# EAGLE library part AS0A626-U2SN-7F (library AS0A626-U2SN-7F)
Conn DDR3 SO DIMM SKT 204 POS 0.6mm
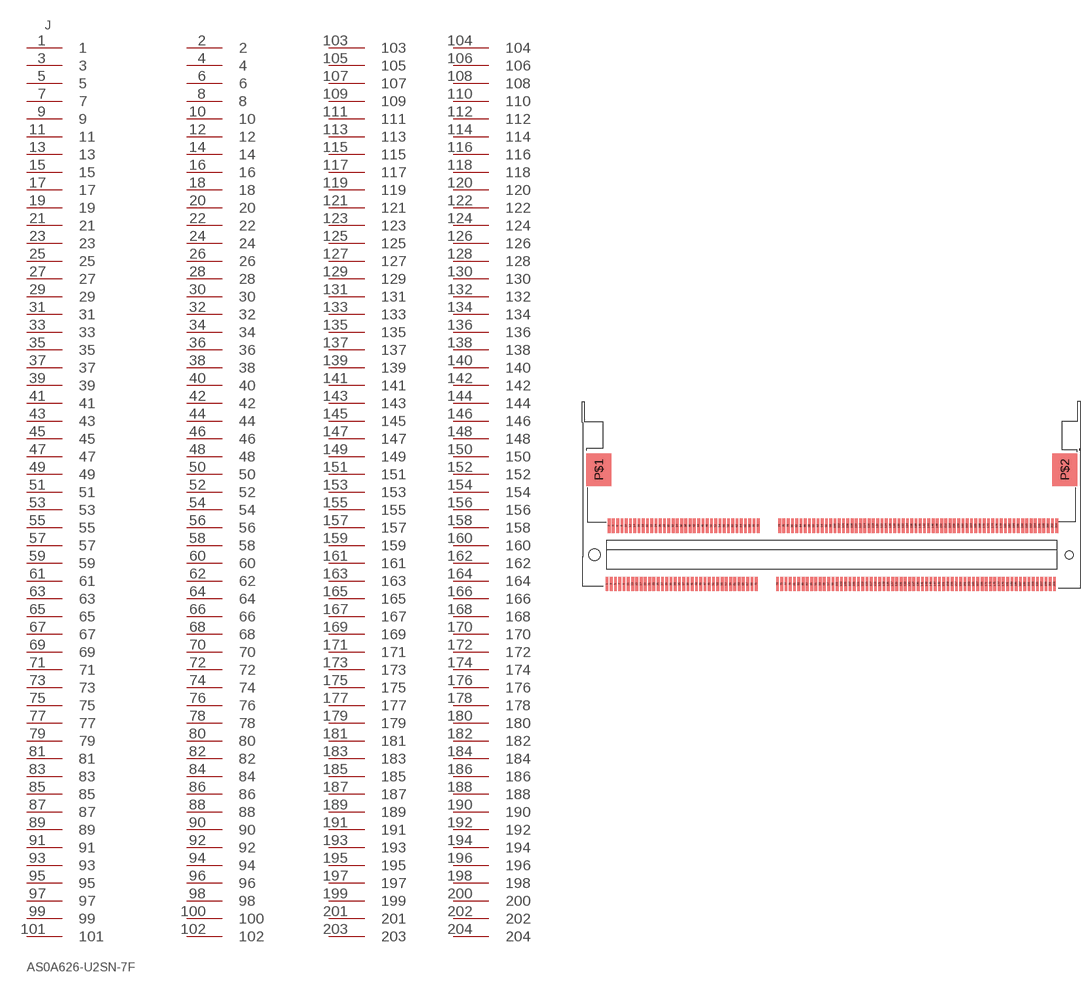
[diagram p0: symbol with the pads of FOXCONN_AS0A626-U2SN-7F; footprint FOXCONN_AS0A626-U2SN-7F]

Designator prefix J

## AS0A626-U2SN-7F (Availability: Unavailable; Description: Connector; MF: Foxconn; MP: AS0A626-U2SN-7F; Package: None; Price: None)  [FOXCONN_AS0A626-U2SN-7F]
1  1  pas
2  2  pas
3  3  pas
4  4  pas
5  5  pas
6  6  pas
7  7  pas
8  8  pas
9  9  pas
10  10  pas
11  11  pas
12  12  pas
13  13  pas
14  14  pas
15  15  pas
16  16  pas
17  17  pas
18  18  pas
19  19  pas
20  20  pas
21  21  pas
22  22  pas
23  23  pas
24  24  pas
25  25  pas
26  26  pas
27  27  pas
28  28  pas
29  29  pas
30  30  pas
31  31  pas
32  32  pas
33  33  pas
34  34  pas
35  35  pas
36  36  pas
37  37  pas
38  38  pas
39  39  pas
40  40  pas
41  41  pas
42  42  pas
43  43  pas
44  44  pas
45  45  pas
46  46  pas
47  47  pas
48  48  pas
49  49  pas
50  50  pas
51  51  pas
52  52  pas
53  53  pas
54  54  pas
55  55  pas
56  56  pas
57  57  pas
58  58  pas
59  59  pas
60  60  pas
61  61  pas
62  62  pas
63  63  pas
64  64  pas
65  65  pas
66  66  pas
67  67  pas
68  68  pas
69  69  pas
70  70  pas
71  71  pas
72  72  pas
73  73  pas
74  74  pas
75  75  pas
76  76  pas
77  77  pas
78  78  pas
79  79  pas
80  80  pas
81  81  pas
82  82  pas
83  83  pas
84  84  pas
85  85  pas
86  86  pas
87  87  pas
88  88  pas
89  89  pas
90  90  pas
91  91  pas
92  92  pas
93  93  pas
94  94  pas
95  95  pas
96  96  pas
97  97  pas
98  98  pas
99  99  pas
100  100  pas
101  101  pas
102  102  pas
103  103  pas
104  104  pas
105  105  pas
106  106  pas
107  107  pas
108  108  pas
109  109  pas
110  110  pas
111  111  pas
112  112  pas
113  113  pas
114  114  pas
115  115  pas
116  116  pas
117  117  pas
118  118  pas
119  119  pas
120  120  pas
121  121  pas
122  122  pas
123  123  pas
124  124  pas
125  125  pas
126  126  pas
127  127  pas
128  128  pas
129  129  pas
130  130  pas
131  131  pas
132  132  pas
133  133  pas
134  134  pas
135  135  pas
136  136  pas
137  137  pas
138  138  pas
139  139  pas
140  140  pas
141  141  pas
142  142  pas
143  143  pas
144  144  pas
145  145  pas
146  146  pas
147  147  pas
148  148  pas
149  149  pas
150  150  pas
151  151  pas
152  152  pas
153  153  pas
154  154  pas
155  155  pas
156  156  pas
157  157  pas
158  158  pas
159  159  pas
160  160  pas
161  161  pas
162  162  pas
163  163  pas
164  164  pas
165  165  pas
166  166  pas
167  167  pas
168  168  pas
169  169  pas
170  170  pas
171  171  pas
172  172  pas
173  173  pas
174  174  pas
175  175  pas
176  176  pas
177  177  pas
178  178  pas
179  179  pas
180  180  pas
181  181  pas
182  182  pas
183  183  pas
184  184  pas
185  185  pas
186  186  pas
187  187  pas
188  188  pas
189  189  pas
190  190  pas
191  191  pas
192  192  pas
193  193  pas
194  194  pas
195  195  pas
196  196  pas
197  197  pas
198  198  pas
199  199  pas
200  200  pas
201  201  pas
202  202  pas
203  203  pas
204  204  pas

## Footprint FOXCONN_AS0A626-U2SN-7F (pad centres in mm)
smd 0.4 x 2: 1 -31.6,-4.1; 2 -31.3,4.1; 3 -31,-4.1; 4 -30.7,4.1; 5 -30.4,-4.1; 6 -30.1,4.1; 7 -29.8,-4.1; 8 -29.5,4.1; 9 -29.2,-4.1; 10 -28.9,4.1; 11 -28.6,-4.1; 12 -28.3,4.1; 13 -28,-4.1; 14 -27.7,4.1; 15 -27.4,-4.1; 16 -27.1,4.1; 17 -26.8,-4.1; 18 -26.5,4.1; 19 -26.2,-4.1; 20 -25.9,4.1; 21 -25.6,-4.1; 22 -25.3,4.1; 23 -25,-4.1; 24 -24.7,4.1; 25 -24.4,-4.1; 26 -24.1,4.1; 27 -23.8,-4.1; 28 -23.5,4.1; 29 -23.2,-4.1; 30 -22.9,4.1; 31 -22.6,-4.1; 32 -22.3,4.1; 33 -22,-4.1; 34 -21.7,4.1; 35 -21.4,-4.1; 36 -21.1,4.1; 37 -20.8,-4.1; 38 -20.5,4.1; 39 -20.2,-4.1; 40 -19.9,4.1; 41 -19.6,-4.1; 42 -19.3,4.1; 43 -19,-4.1; 44 -18.7,4.1; 45 -18.4,-4.1; 46 -18.1,4.1; 47 -17.8,-4.1; 48 -17.5,4.1; 49 -17.2,-4.1; 50 -16.9,4.1; 51 -16.6,-4.1; 52 -16.3,4.1; 53 -16,-4.1; 54 -15.7,4.1; 55 -15.4,-4.1; 56 -15.1,4.1; 57 -14.8,-4.1; 58 -14.5,4.1; 59 -14.2,-4.1; 60 -13.9,4.1; 61 -13.6,-4.1; 62 -13.3,4.1; 63 -13,-4.1; 64 -12.7,4.1; 65 -12.4,-4.1; 66 -12.1,4.1; 67 -11.8,-4.1; 68 -11.5,4.1; 69 -11.2,-4.1; 70 -10.9,4.1; 71 -10.6,-4.1; 72 -10.3,4.1; 73 -7.6,-4.1; 74 -7.3,4.1; 75 -7,-4.1; 76 -6.7,4.1; 77 -6.4,-4.1; 78 -6.1,4.1; 79 -5.8,-4.1; 80 -5.5,4.1; 81 -5.2,-4.1; 82 -4.9,4.1; 83 -4.6,-4.1; 84 -4.3,4.1; 85 -4,-4.1; 86 -3.7,4.1; 87 -3.4,-4.1; 88 -3.1,4.1; 89 -2.8,-4.1; 90 -2.5,4.1; 91 -2.2,-4.1; 92 -1.9,4.1; 93 -1.6,-4.1; 94 -1.3,4.1; 95 -1,-4.1; 96 -0.7,4.1; 97 -0.4,-4.1; 98 -0.1,4.1; 99 0.2,-4.1; 100 0.5,4.1; 101 0.8,-4.1; 102 1.1,4.1; 103 1.4,-4.1; 104 1.7,4.1; 105 2,-4.1; 106 2.3,4.1; 107 2.6,-4.1; 108 2.9,4.1; 109 3.2,-4.1; 110 3.5,4.1; 111 3.8,-4.1; 112 4.1,4.1; 113 4.4,-4.1; 114 4.7,4.1; 115 5,-4.1; 116 5.3,4.1; 117 5.6,-4.1; 118 5.9,4.1; 119 6.2,-4.1; 120 6.5,4.1; 121 6.8,-4.1; 122 7.1,4.1; 123 7.4,-4.1; 124 7.7,4.1; 125 8,-4.1; 126 8.3,4.1; 127 8.6,-4.1; 128 8.9,4.1; 129 9.2,-4.1; 130 9.5,4.1; 131 9.8,-4.1; 132 10.1,4.1; 133 10.4,-4.1; 134 10.7,4.1; 135 11,-4.1; 136 11.3,4.1; 137 11.6,-4.1; 138 11.9,4.1; 139 12.2,-4.1; 140 12.5,4.1; 141 12.8,-4.1; 142 13.1,4.1; 143 13.4,-4.1; 144 13.7,4.1; 145 14,-4.1; 146 14.3,4.1; 147 14.6,-4.1; 148 14.9,4.1; 149 15.2,-4.1; 150 15.5,4.1; 151 15.8,-4.1; 152 16.1,4.1; 153 16.4,-4.1; 154 16.7,4.1; 155 17,-4.1; 156 17.3,4.1; 157 17.6,-4.1; 158 17.9,4.1; 159 18.2,-4.1; 160 18.5,4.1; 161 18.8,-4.1; 162 19.1,4.1; 163 19.4,-4.1; 164 19.7,4.1; 165 20,-4.1; 166 20.3,4.1; 167 20.6,-4.1; 168 20.9,4.1; 169 21.2,-4.1; 170 21.5,4.1; 171 21.8,-4.1; 172 22.1,4.1; 173 22.4,-4.1; 174 22.7,4.1; 175 23,-4.1; 176 23.3,4.1; 177 23.6,-4.1; 178 23.9,4.1; 179 24.2,-4.1; 180 24.5,4.1; 181 24.8,-4.1; 182 25.1,4.1; 183 25.4,-4.1; 184 25.7,4.1; 185 26,-4.1; 186 26.3,4.1; 187 26.6,-4.1; 188 26.9,4.1; 189 27.2,-4.1; 190 27.5,4.1; 191 27.8,-4.1; 192 28.1,4.1; 193 28.4,-4.1; 194 28.7,4.1; 195 29,-4.1; 196 29.3,4.1; 197 29.6,-4.1; 198 29.9,4.1; 199 30.2,-4.1; 200 30.5,4.1; 201 30.8,-4.1; 202 31.1,4.1; 203 31.4,-4.1; 204 31.7,4.1
smd 3.5 x 4.6: P$1 -32.75,12; P$2 32.85,12
hole 1.65 at -33.35,0
hole 1.15 at 33.45,0